# EAGLE library part OPA357AIDBVR (library Elektronik_lib)
Texas Instruments OPA300AIDBVT Op Amp, 150MHz CMOS, Rail to Rail, 3 V, 5 V, 6-Pin SOT-23 Source: Datasheet <http://www.ti.com/lit/gpn/opa300>
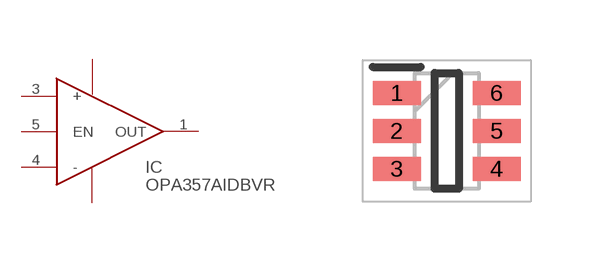
[diagram p5: symbol with the pads of SOT95P280X145-6N; footprint SOT95P280X145-6N]

Designator prefix IC

## OPA357AIDBVR (ARROW_PART_NUMBER: OPA300AIDBVT; ARROW_PRICE-STOCK: https://www.arrow.com/en/products/opa300aidbvt/texas-instruments; DESCRIPTION: Texas Instruments OPA300AIDBVT Op Amp, 150MHz CMOS, Rail to Rail, 3 V, 5 V, 6-Pin SOT-23; HEIGHT: 1.45mm; MANUFACTURER_NAME: Texas Instruments; MANUFACTURER_PART_NUMBER: OPA300AIDBVT; MOUSER_PART_NUMBER: 595-OPA300AIDBVT; MOUSER_PRICE-STOCK: https://www.mouser.co.uk/ProductDetail/Texas-Instruments/OPA300AIDBVT?qs=7nS3%252BbEUL6t1esg%2FG6ny6A%3D%3D)  [SOT95P280X145-6N]
1  OUT
2  V-
3  +
4  -
5  EN
6  V+

## Footprint SOT95P280X145-6N (pad centres in mm)
DBV0006A
smd 1.2 x 0.6: 1 -1.25,0.95; 2 -1.25,0; 3 -1.25,-0.95; 4 1.25,-0.95; 5 1.25,0; 6 1.25,0.95